# Altium footprint library Leo_Integrated_PCBLibrary.PcbLib: 25 footprints (part 1 of 2)
Each footprint in its own frame and in the unit in brackets; x right, y up, seen from the top. Pads: shape width x height; smd on the part's side, far side on the other; paste and mask are expansions set on the pad; w line width, h text height; cw(c..) or ccw(c..) is an arc to the next point about the centre after c.
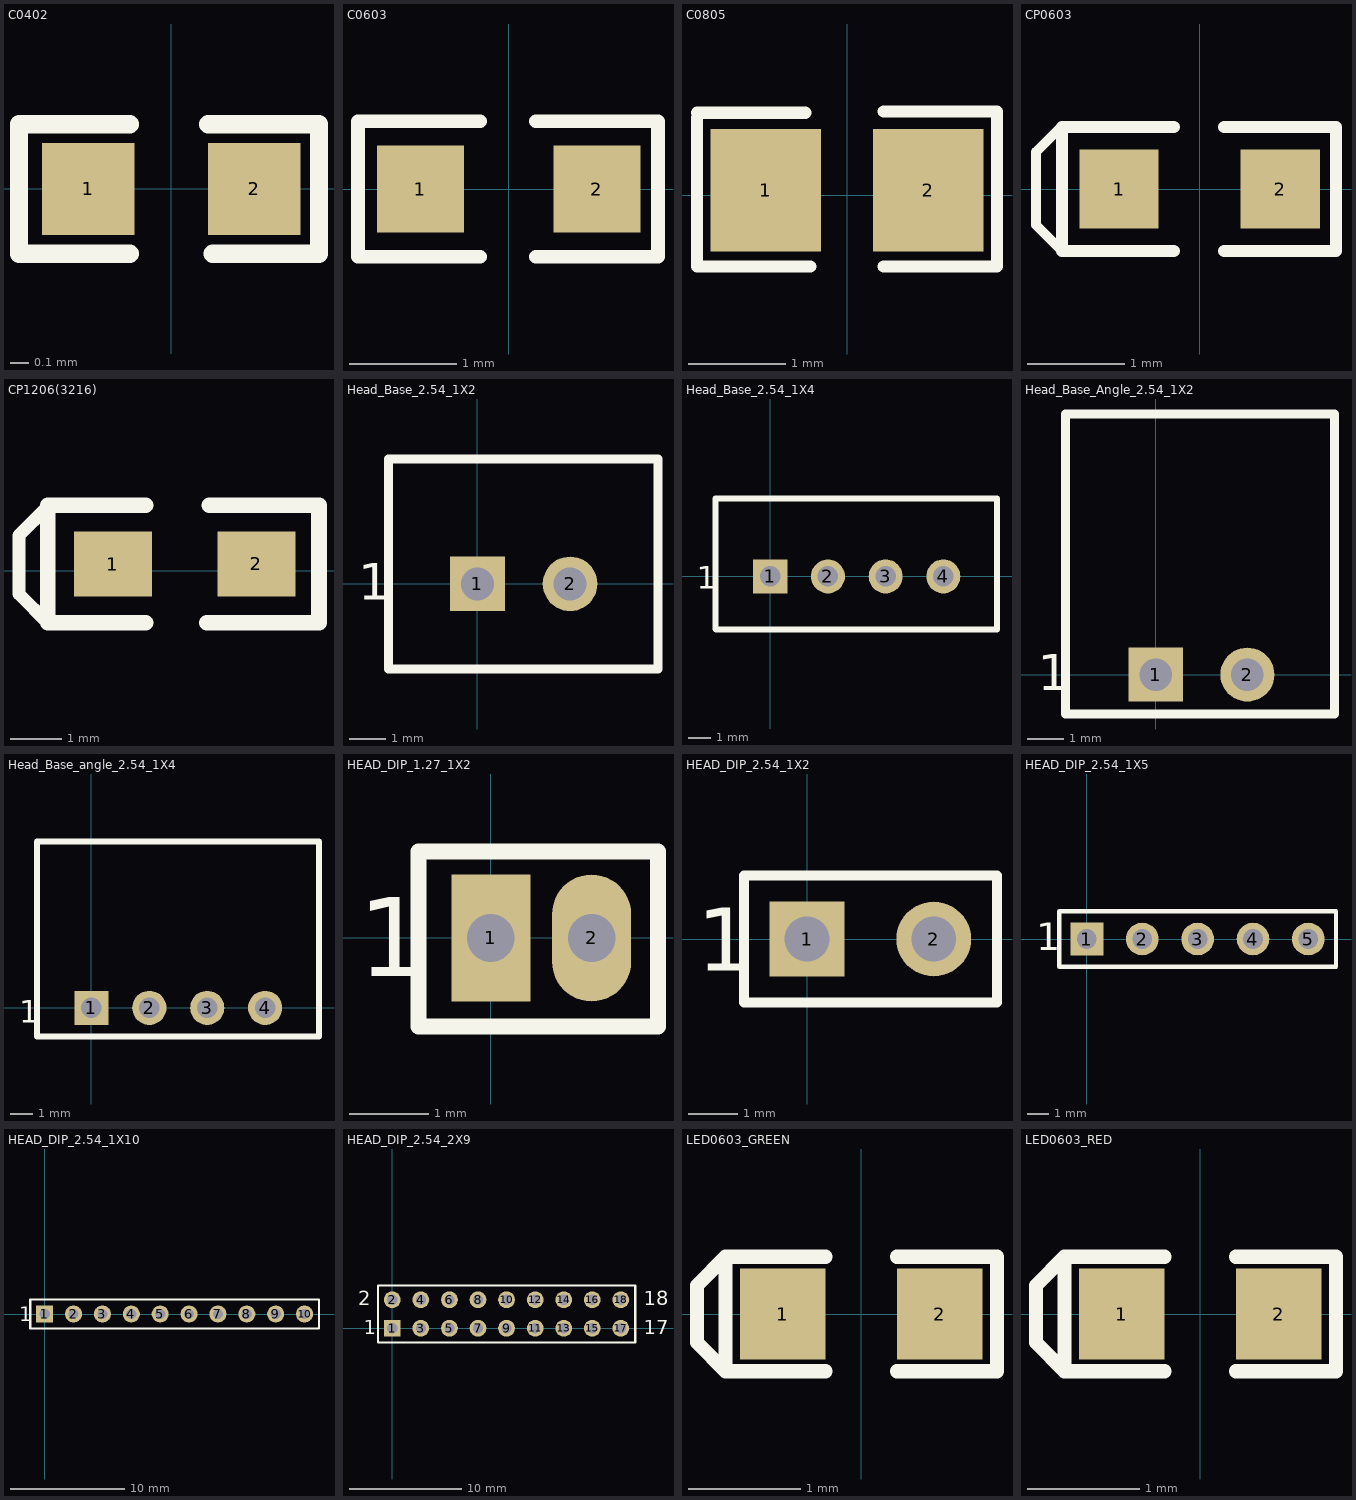
[diagram p0: the footprints below, top view; thin cyan lines are the x and y axes]

## C0402 [mil] "C0402"
pads (2):
  rect 20x20 smd: 1(-18,0) 2(18,0)
Top Overlay:
  lines w4: -9,-14 -33,-14 -33,14 -9,14 ; 8,14 32,14 32,-14 9,-14
Mechanical 12:
  lines w1: -32,-14 -32,14 ; 32,-14 32,14
3D body "User Library-SMD CAPACITOR 0402.step": height 20.84, standoff 1.16, extent -19.69,-9.85 19.68,9.84

## C0603 [mil] "Chip Capacity; Body 1.6 x 0.8 mm (LxW typ)"
pads (2):
  rect 32x32 smd: 1(-32.5,0) 2(32.5,0)
Top Overlay:
  lines w5: -10.5,-25 -55.5,-25 -55.5,25 -10.5,25 ; 10,-25 55,-25 55,25 10,25
3D body "User Library-SMD RESISTOR 0603.step": height 18.86, standoff 1.14, extent -31.5,-15.74 31.49,15.75

## C0805 [mil] "C0805"
pads (2):
  rect 45x50 smd: 1(-33,2) 2(33,2)
Top Overlay:
  lines w5: -61,-29 -15,-29 ; -61,-28.5 -61,31.5 ; -61,33.5 -17,33.5 ; 15,-29 61,-29 ; 15,34 61,34 61,-28
Mechanical 9:
  text "1" at -33,-8 h25
  text "2" at 33,-8 h25
3D body "User Library-SMD CAPACITOR 0805.step": height 24.81, standoff 1.19, extent -39.37,-22.61 39.37,26.6

## CP0603 [mil] "Chip Capacity; Body 1.6 x 0.8 mm (LxW typ)"
pads (2):
  rect 32x32 smd: 1(-32.5,0) 2(32.5,0)
Top Overlay:
  lines w3.94: -55.5,-25 -66,-14.5 -66,15 -56,25 -55.5,25
  lines w5: -10.5,-25 -55.5,-25 -55.5,25 -10.5,25 ; 10,-25 55,-25 55,25 10,25
3D body "User Library-SMD RESISTOR 0603.step": height 18.86, standoff 1.14, extent -31.5,-15.74 31.49,15.75

## CP1206(3216) [mil]
height 62.99
pads (2):
  rect 60x50 smd: 1(125,5) 2(235,5)
Top Overlay:
  lines w10: 75,-40 53,-18 53,27 75,49 75,50
  lines w12: 150,-40 75,-40 75,50 150,50 ; 197,-40 283,-40 283,50 199,50
3D body "User Library-Solid Tantalum Chip Capacitor A-3216-18.step": height 71, standoff -1.4, extent 85.3,-30.5 274.1,40.5

## Head_Base_2.54_1X2 [mm] "Connector; Header; 2 Position"
pads (2):
  rect 1.5x1.5 hole 0.9: 1(0,0)
  round 1.5 hole 0.9: 2(2.54,0)
Top Overlay:
  lines w0.254: -2.438,-2.337 -2.438,3.429 4.953,3.429 4.953,-2.337 -2.438,-2.337
  text "1" at -3.277,-0.432 h1
3D body "2针针座_直头_2.54-1.step": height 7, standoff -3.4, extent -2.43,-2.333 4.97,3.417

## Head_Base_2.54_1X4 [mm] "Connector; Header; 4 Position"
pads (4):
  rect 1.5x1.5 hole 0.9: 1(0,0)
  round 1.5 hole 0.9: 2(2.54,0) 3(5.08,0) 4(7.62,0)
Top Overlay:
  lines w0.254: -2.413,-2.311 -2.413,3.429 9.982,3.429 9.982,-2.337 -2.388,-2.337 -2.413,-2.311
  text "1" at -3.226,-0.533 h1
3D body "四针针座_直头_2.54.step": height 7, standoff -3.4, extent -2.39,-2.341 10.01,3.409

## Head_Base_Angle_2.54_1X2 [mm] "Connector; Header; 2 Position"
height 6
pads (2):
  rect 1.5x1.5 hole 0.9: 1(0,0)
  round 1.5 hole 0.9: 2(2.54,0)
Top Overlay:
  lines w0.254: -2.505,-1.092 -2.505,7.229 4.953,7.229 4.953,-1.092 -2.505,-1.092
  text "1" at -3.277,-0.432 h1
3D body "2针针座_弯头_2.54.STEP": height 5.95, standoff -3.35, extent -2.505,-0.411 4.995,7.229

## Head_Base_angle_2.54_1X4 [mm] "Connector; Header; 4 Position"
height 6
pads (4):
  rect 1.5x1.5 hole 0.9: 1(0,0)
  round 1.5 hole 0.9: 2(2.54,0) 3(5.08,0) 4(7.62,0)
Top Overlay:
  lines w0.254: -2.388,-1.25 9.982,-1.25 9.982,7.29 -2.388,7.29 -2.388,-1.25
  text "1" at -3.175,-0.66 h1
3D body "4针针座_弯头_2.54.step": height 5.9, standoff -3, extent -2.465,-0.295 10.035,7.305

## HEAD_DIP_1.27_1X2 [mm] "Connector; Header; 2 Position"
pads (2):
  rect 1x1.6 hole 0.6: 1(0,0)
  oval 1x1.6 hole 0.6: 2(1.27,0)
Top Overlay:
  lines w0.2: -0.914,-1.118 -0.914,1.092 2.108,1.092 2.108,-1.118 -0.914,-1.118
  text "1" at -1.676,-0.483 h1

## HEAD_DIP_2.54_1X2 [mm] "Connector; Header; 2 Position"
pads (2):
  rect 1.5x1.5 hole 0.9: 1(0,0)
  round 1.5 hole 0.9: 2(2.54,0)
Top Overlay:
  lines w0.2: -1.27,-1.27 -1.27,1.27 3.81,1.27 3.81,-1.27 -1.27,-1.27
  text "1" at -2.21,-0.635 h1.27

## HEAD_DIP_2.54_1X5 [mm] "Connector; Header; 5 Position"
pads (5):
  rect 1.5x1.5 hole 0.9: 1(0,0)
  round 1.5 hole 0.9: 2(2.54,0) 3(5.08,0) 4(7.62,0) 5(10.16,0)
Top Overlay:
  lines w0.2: -1.27,-1.27 11.43,-1.27 11.43,1.27 -1.27,1.27 -1.27,-1.27
  text "1" at -2.337,-0.508 h1.27

## HEAD_DIP_2.54_1X10 [mm] "Connector; Header; 10 Position"
pads (10):
  rect 1.5x1.5 hole 0.9: 1(0,0)
  round 1.5 hole 0.9: 2(2.54,0) 3(5.08,0) 4(7.62,0) 5(10.16,0) 6(12.7,0) 7(15.24,0) 8(17.78,0) 9(20.32,0) 10(22.86,0)
Top Overlay:
  lines w0.2: -1.27,-1.27 -1.27,1.27 0.635,1.27 24.13,1.27 24.13,-1.27 -1.27,-1.27
  text "1" at -2.261,-0.635 h1.27

## HEAD_DIP_2.54_2X9 [mm] "Connector; Header; 9x2 Position"
pads (18):
  rect 1.5x1.5 hole 0.9: 1(0,0)
  round 1.5 hole 0.9: 2(0,2.54) 3(2.54,0) 4(2.54,2.54) 5(5.08,0) 6(5.08,2.54) 7(7.62,0) 8(7.62,2.54) 9(10.16,0) 10(10.16,2.54) 11(12.7,0) 12(12.7,2.54) 13(15.24,0) 14(15.24,2.54) 15(17.78,0) 16(17.78,2.54) 17(20.32,0) 18(20.32,2.54)
Top Overlay:
  lines w0.2: -1.27,-1.27 21.59,-1.27 21.59,3.81 -1.27,3.81 -1.27,-1.27
  text "18" at 22.352,2.032 h1.27
  text "17" at 22.352,-0.508 h1.27
  text "1" at -2.54,-0.508 h1.27
  text "2" at -3.048,2.032 h1.27

## LED0603_GREEN [mil] "SMD Super Bright LED, GREEN"
height 23.62
pads (2):
  rect 30x32 smd: 1(-27.5,0) 2(27.5,0)
Top Overlay:
  lines w5: -12.5,-20 -47.5,-20 ; -12.5,20 -47.5,20 ; 12.5,-20 47.5,-20 47.5,20 12.5,20 ; -47.5,-20 -47.5,20 ; -47.5,-20 -57.5,-10 -57.5,10 -47.5,20
3D body "User Library-led_0603_green.step": height 23.62, standoff 0, extent -31.89,-15.74 31.89,15.75

## LED0603_RED [mil] "SMD Super Bright LED, RED"
height 23.62
pads (2):
  rect 30x32 smd: 1(-27.5,0) 2(27.5,0)
Top Overlay:
  lines w5: -12.5,-20 -47.5,-20 ; -12.5,20 -47.5,20 ; 12.5,-20 47.5,-20 47.5,20 12.5,20 ; -47.5,-20 -47.5,20 ; -47.5,-20 -57.5,-10 -57.5,10 -47.5,20
3D body "User Library-led_0603_red.step": height 23.62, standoff 0, extent -31.89,-15.74 31.89,15.75